# Altium footprint library axsem_passives_v1-6.PCBLIB: 25 footprints (part 1 of 2)
Each footprint in its own frame and in the unit in brackets; x right, y up, seen from the top. Pads: shape width x height; smd on the part's side, far side on the other; paste and mask are expansions set on the pad; w line width, h text height; cw(c..) or ccw(c..) is an arc to the next point about the centre after c.
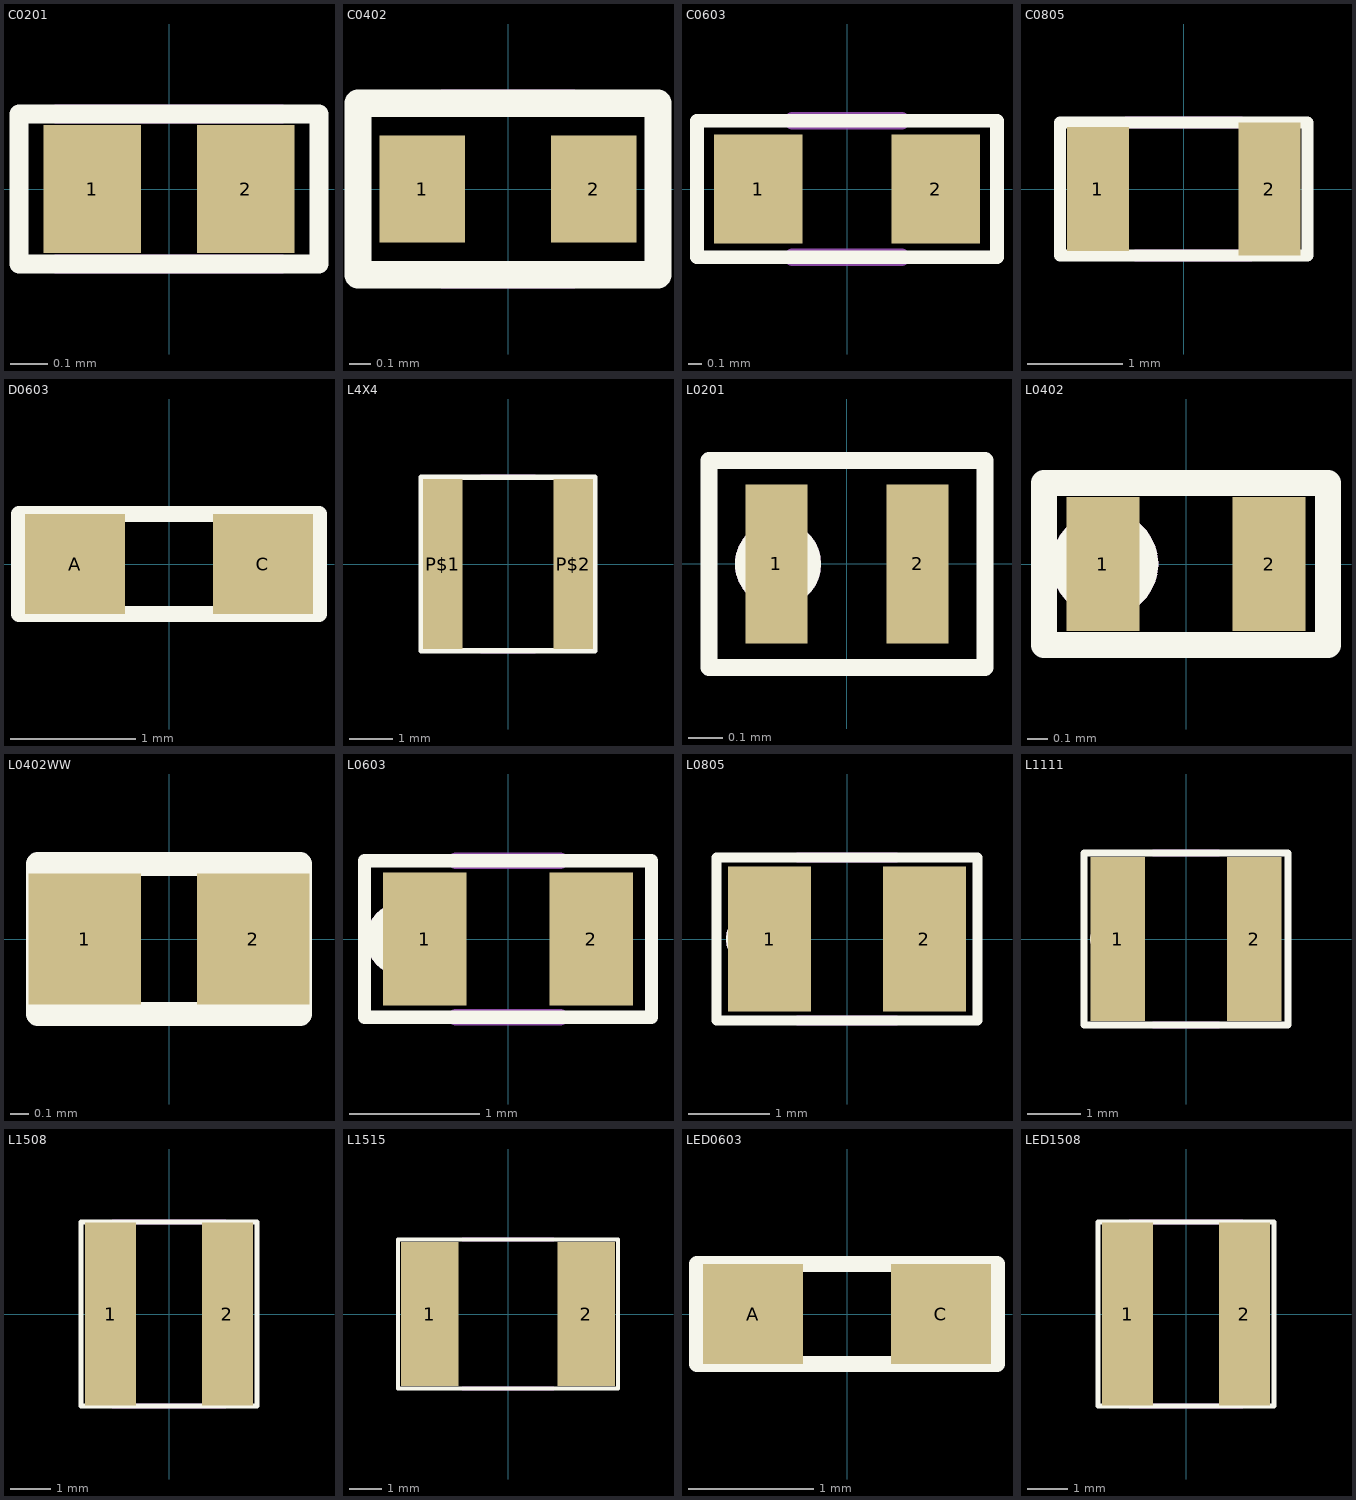
[diagram p0: the footprints below, top view; thin cyan lines are the x and y axes]

## C0201 [mm]
pads (2):
  rect 0.26x0.34 smd: 1(-0.205,0) 2(0.205,0)
Top Overlay:
  lines w0.05: -0.4,-0.2 -0.4,0.2 0.4,0.2 0.4,-0.2 -0.4,-0.2
Mechanical 16:
  lines w0.05: -0.3,-0.2 0.3,-0.2 ; -0.3,0.2 0.3,0.2

## C0402 [mm]
pads (2):
  rect 0.4x0.5 smd: 1(-0.4,0) 2(0.4,0)
Top Overlay:
  lines w0.127: -0.7,-0.4 -0.7,0.4 0.7,0.4 0.7,-0.4 -0.7,-0.4
Mechanical 16:
  lines w0.127: -0.3,-0.4 0.3,-0.4 ; -0.3,0.4 0.3,0.4

## C0603 [mm]
pads (2):
  rect 0.65x0.8 smd: 1(-0.65,0) 2(0.65,0)
Top Overlay:
  lines w0.1: -1.1,-0.5 1.1,-0.5 1.1,0.5 -1.1,0.5 -1.1,-0.5
Mechanical 16:
  lines w0.127: -0.4,-0.5 0.4,-0.5 ; -0.4,0.5 0.4,0.5

## C0805 [mm]
pads (2):
  rect 0.65x1.3 smd: 1(-0.9,0)
  rect 0.65x1.4 smd: 2(0.9,0)
Top Overlay:
  lines w0.127: -1.3,-0.7 1.3,-0.7 1.3,0.7 -1.3,0.7 -1.3,-0.7
Mechanical 16:
  lines w0.127: -0.6,0.7 0.6,0.7 ; -0.5,-0.7 0.7,-0.7

## D0603 [mil]
pads (2):
  rect 31.5x31.5 smd: A(-29.53,0) C(29.53,0)
Top Overlay:
  region: 27.56,4.92 27.56,-4.92 37.4,-4.92 37.4,4.92
  lines w5: -47.24,-15.75 47.24,-15.75 47.24,15.75 -47.24,15.75 -47.24,-15.75
Mechanical 16:
  lines w4: -13.78,-15.75 13.78,-15.75 ; -13.78,15.75 14.76,15.75

## L4X4 [mm]
pads (2):
  rect 0.9x3.9 smd: P$1(-1.5,0) P$2(1.5,0)
Top Overlay:
  circle w0.127: c-1.7,0 r0.224
  lines w0.127: -2,-2 2,-2 2,2 -2,2 -2,-2
Mechanical 16:
  circle w0.127: c-1.7,0 r0.224
  lines w0.127: -0.6,-2 0.6,-2 ; -0.6,2 0.6,2

## L0201 [mm]
pads (2):
  rect 0.18x0.46 smd: 1(-0.205,0) 2(0.205,0)
Top Overlay:
  circle w0.05: c-0.2,0 r0.1
  lines w0.05: -0.4,-0.3 -0.4,0.3 0.4,0.3 0.4,-0.3 -0.4,-0.3
Mechanical 16:
  circle w0.05: c-0.2,0 r0.1
  lines w0.05: -0.3,-0.3 0.3,-0.3 ; -0.3,0.3 0.3,0.3

## L0402 [mm]
pads (2):
  rect 0.36x0.66 smd: 1(-0.41,0) 2(0.41,0)
Top Overlay:
  circle w0.127: c-0.4,0 r0.2
  lines w0.127: -0.7,-0.4 -0.7,0.4 0.7,0.4 0.7,-0.4 -0.7,-0.4
Mechanical 16:
  circle w0.127: c-0.4,0 r0.2
  lines w0.127: -0.3,-0.4 0.3,-0.4 ; -0.3,0.4 0.3,0.4

## L0402WW [mm]
pads (2):
  rect 0.6x0.7 smd: 1(-0.45,0) 2(0.45,0)
Top Overlay:
  lines w0.127: -0.7,-0.4 -0.7,0.4 0.7,0.4 0.7,-0.4 -0.7,-0.4
Mechanical 16:
  lines w0.127: -0.3,-0.4 0.3,-0.4 ; -0.3,0.4 0.3,0.4

## L0603 [mm]
pads (2):
  rect 0.64x1.02 smd: 1(-0.64,0) 2(0.64,0)
Top Overlay:
  circle w0.127: c-0.8,0 r0.224
  lines w0.1: -1.1,-0.6 1.1,-0.6 1.1,0.6 -1.1,0.6 -1.1,-0.6
Mechanical 16:
  circle w0.127: c-0.8,0 r0.224
  lines w0.127: -0.4,-0.6 0.4,-0.6 ; -0.4,0.6 0.4,0.6

## L0805 [mm]
pads (2):
  rect 1.02x1.78 smd: 1(-0.95,0) 2(0.95,0)
Top Overlay:
  circle w0.127: c-1.2,0 r0.224
  lines w0.127: -1.6,-1 1.6,-1 1.6,1 -1.6,1 -1.6,-1
Mechanical 16:
  circle w0.127: c-1.2,0 r0.224
  lines w0.127: -0.6,-1 0.6,-1 ; -0.6,1 0.6,1

## L1111 [mm]
pads (2):
  rect 1.02x3.05 smd: 1(-1.27,0) 2(1.27,0)
Top Overlay:
  circle w0.127: c-1.5,0 r0.224
  lines w0.127: -1.9,-1.6 1.9,-1.6 1.9,1.6 -1.9,1.6 -1.9,-1.6
Mechanical 16:
  circle w0.127: c-1.5,0 r0.224
  lines w0.127: -0.6,-1.6 0.6,-1.6 ; -0.6,1.6 0.6,1.6

## L1508 [mm]
pads (2):
  rect 1.27x4.57 smd: 1(-1.46,0) 2(1.46,0)
Top Overlay:
  circle w0.127: c-1.8,0 r0.224
  lines w0.127: -2.2,-2.3 2.2,-2.3 2.2,2.3 -2.2,2.3 -2.2,-2.3
Mechanical 16:
  circle w0.127: c-1.8,0 r0.224
  lines w0.127: -1.4,-2.3 1.4,-2.3 ; -1.4,2.3 1.4,2.3

## L1515 [mm]
pads (2):
  rect 1.78x4.45 smd: 1(-2.415,0) 2(2.415,0)
Top Overlay:
  circle w0.127: c-3,0 r0.224
  lines w0.127: -3.4,-2.3 3.4,-2.3 3.4,2.3 -3.4,2.3 -3.4,-2.3
Mechanical 16:
  circle w0.127: c-3,0 r0.224
  lines w0.127: -1.4,-2.3 1.4,-2.3 ; -1.4,2.3 1.4,2.3

## LED0603 [mil]
pads (2):
  rect 31.5x31.5 smd: A(-29.53,0) C(29.53,0)
Top Overlay:
  region: 27.56,4.92 27.56,-4.92 37.4,-4.92 37.4,4.92
  lines w5: -47.24,-15.75 47.24,-15.75 47.24,15.75 -47.24,15.75 -47.24,-15.75
Mechanical 16:
  lines w4: -13.78,-15.75 13.78,-15.75 ; -13.78,15.75 14.76,15.75

## LED1508 [mm]
pads (2):
  rect 1.27x4.57 smd: 1(-1.46,0) 2(1.46,0)
Top Overlay:
  lines w0.127: -2.2,-2.3 2.2,-2.3 2.2,2.3 -2.2,2.3 -2.2,-2.3
Mechanical 16:
  lines w0.127: -1.4,-2.3 1.4,-2.3 ; -1.4,2.3 1.4,2.3